# Altium schematic symbol library Relay Board.SchLib: 4 symbols
Pins are listed as number, name and electrical type; pins without a type are passive.

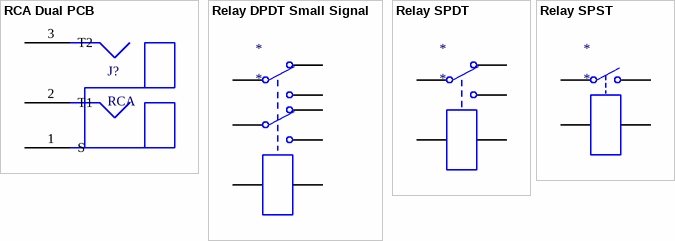
[diagram p0: symbols RCA Dual PCB to Relay SPST]

## RCA Dual PCB
designator J?, comment RCA
Manufacturer: Switchcraft Inc.; Manufacturer Part Number: PJRAS1X2S01AUX; Description: PHONO JACK 2POS R/A RED/WHT GOLD; Connector Type: Phono (RCA) Jack; Gender: Female; Signal Lines: Mono; Plug/Mating Plug Diameter: 3.20mm ID, 9.00mm OD (RCA); Number of Positions/Contacts: 2 Sets of 2 Conductors, 3 Contacts; Internal Switch(s): Does Not Contain Switch; Shielding: Shielded; Color - Contact: Red, White; Voltage - Rated: 34VAC/DC; Current Rating: 2A; Supplier 1: Digi-Key; RoHS: RoHS Compliant; Category: Connectors, Interconnects; Stock 1: 0; Pricing 1: 1000=1.66304 (AUD); Packaging: -; Mounting Type: Through Hole, Right Angle; Termination: Solder; Features: Grounding Tab; Contact Material: Copper Alloy; Contact Material - Plating: Gold; Housing Material: Thermoplastic; Housing Color: Black; Operating Temperature: -25°C ~ 85°C; ComponentLink1URL: http://www.switchcraft.com/Drawings/pjras1x2s__x_series_cd.pdf; ComponentLink1Description: http://www.switchcraft.com/Drawings/pjras1x2s__x_series_cd.pdf; Supplier Part Number 1: SC1856-ND
footprint PJRAS1X2S01AUX (DUAL RCA PCB)
pins: 1 S (power), 2 T1 (power), 3 T2 (power)

## Relay DPDT Small Signal
designator *
footprint DIP-P10
pins: 1, 2, 3, 4, 7, 8, 9, 10

## Relay SPDT
designator *
footprint RELAY_SPDT (JQ3FF-24)
pins: 1, 2, 3, 4, 5

## Relay SPST
designator *
pins: 1, 2, 3, 4